# Altium schematic symbol library Sonar_board.SchLib: 4 symbols
Pins are listed as number, name and electrical type; pins without a type are passive.

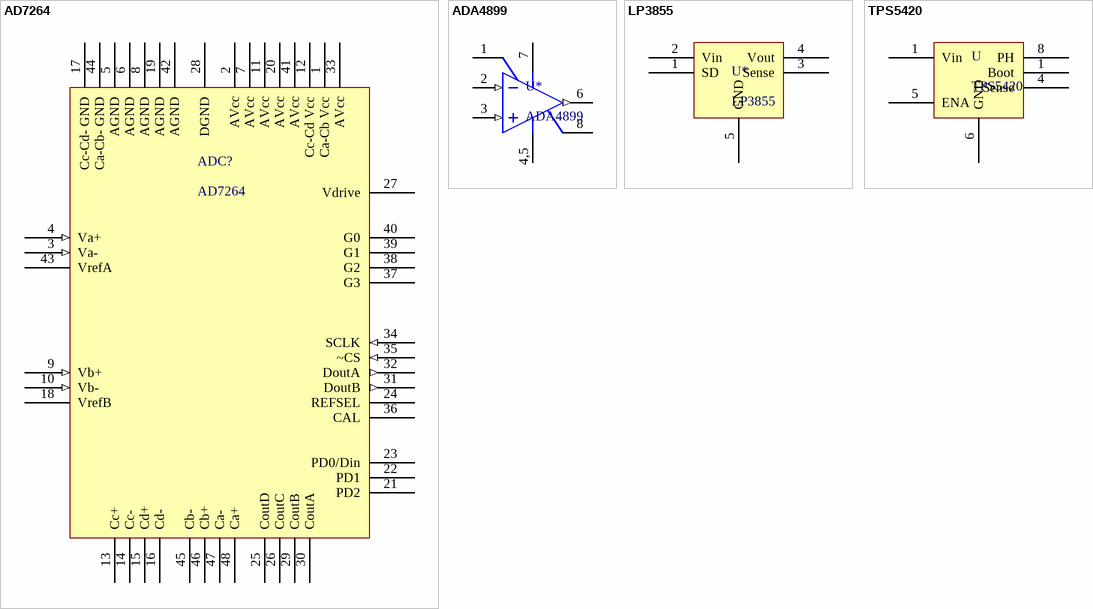
[diagram p0: symbols AD7264 to TPS5420]

## AD7264
designator ADC?
AD7264 - 14 bit 1MSPS 2 channel ADC
footprint TSQFP50P900X900-48N (Thin QFP, 48-Leads, Body 7x7mm, Pitch 0.5mm, IPC Medium Density)
pins: 1 Ca-Cb Vcc, 2 AVcc, 3 Va- (in), 4 Va+ (in), 5 AGND, 6 AGND, 7 AVcc, 8 AGND, 9 Vb+ (in), 10 Vb- (in), 11 AVcc, 12 Cc-Cd Vcc, 13 Cc+, 14 Cc-, 15 Cd+, 16 Cd-, 17 Cc-Cd- GND, 18 VrefB, 19 AGND, 20 AVcc, 21 PD2, 22 PD1, 23 PD0/Din, 24 REFSEL, 25 CoutD, 26 CoutC, 27 Vdrive, 28 DGND, 29 CoutB, 30 CoutA, 31 DoutB (out), 32 DoutA (out), 33 AVcc, 34 SCLK (in), 35 ~CS (in), 36 CAL, 37 G3, 38 G2, 39 G1, 40 G0, 41 AVcc, 42 AGND, 43 VrefA, 44 Ca-Cb- GND, 45 Cb-, 46 Cb+, 47 Ca-, 48 Ca+

## ADA4899
designator U*
High Speed, Low Voltage Noise, Unity Gain Stable Op-Amp
footprint SOIC127P600-8AN (SOIC, 8-Leads, Body 4.9x3.9mm, Pitch 1.27mm, IPC Medium Density)
pins: 1 FB, 2 IN- (in), 3 IN+ (in), 4,5 V- (power), 6 OUT (out), 7 V+ (power), 8 CMPEN

## LP3855
designator U*
1.5A Fast Response Ultra Low Dropout Linear Regulator
pins: 1 SD, 2 Vin, 3 Sense, 4 Vout, 5 GND

## TPS5420
designator U
2A Wide Input Range Step-Down Swift Converter
pins: 1 Boot, 1 Vin, 4 Sense, 5 ENA, 6 GND, 8 PH